# Altium footprint library 14-SOIC - MT.PcbLib: 1 footprints
Each footprint in its own frame and in the unit in brackets; x right, y up, seen from the top. Pads: shape width x height; smd on the part's side, far side on the other; paste and mask are expansions set on the pad; w line width, h text height; cw(c..) or ccw(c..) is an arc to the next point about the centre after c.
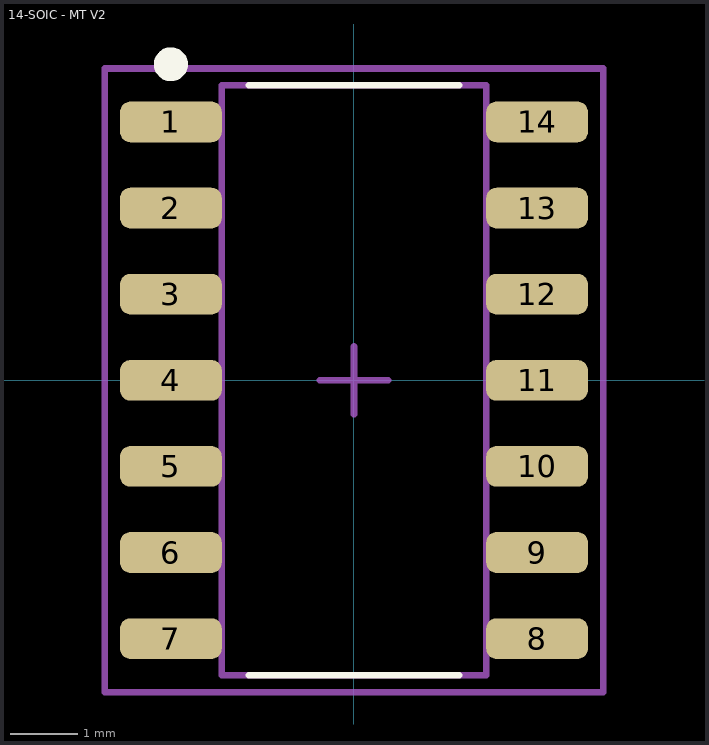
[diagram p0: the footprint, top view; thin cyan lines are the x and y axes]

## 14-SOIC - MT V2 [mm]
height 1.75
pads (14):
  rrect50% 1.5x0.6 smd: 1(-2.7,3.81) 2(-2.7,2.54) 3(-2.7,1.27) 4(-2.7,0) 5(-2.7,-1.27) 6(-2.7,-2.54) 7(-2.7,-3.81) 8(2.7,-3.81) 9(2.7,-2.54) 10(2.7,-1.27) 11(2.7,0) 12(2.7,1.27) 13(2.7,2.54) 14(2.7,3.81)
Top Overlay:
  circle w0.25: c-2.7,4.66 r0.125
  lines w0.1: -1.55,-4.35 1.55,-4.35 ; -1.55,4.35 1.55,4.35
Top 3D Body:
  lines w0.1: -1.95,-4.35 1.95,-4.35 1.95,4.35 -1.95,4.35 -1.95,-4.35
  text "1" at -1.524,3.302 h0.75
Top Courtyard:
  lines w0.1: -0.5,0 0.5,0 ; 0,-0.5 0,0.5 ; -3.675,-4.6 3.675,-4.6 3.675,4.6 -3.675,4.6 -3.675,-4.6
Top Designator (Mech29):
  text ".Designator" at 0.333,-4.998 h1
3D body "14-SOIC - MT V2.step": height 1.75, standoff 0, extent -3,-4.35 3,4.35